# EAGLE library part HEADER1X6 (library untitled)
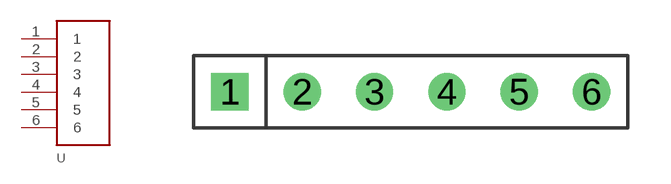
[diagram p22: symbol with the pads of M1X6; footprint M1X6]

Designator prefix -

## HEADER1X6PTH  [M1X6]
1  1
2  2
3  3
4  4
5  5
6  6

## Footprint M1X6 (pad centres in mm)
drill 0.8 square: 1 0,0
drill 0.8 round: 2 2.54,0; 3 5.08,0; 4 7.62,0; 5 10.16,0; 6 12.7,0